# Altium footprint library VARISTOR.PcbLib: 1 footprints
Each footprint in its own frame and in the unit in brackets; x right, y up, seen from the top. Pads: shape width x height; smd on the part's side, far side on the other; paste and mask are expansions set on the pad; w line width, h text height; cw(c..) or ccw(c..) is an arc to the next point about the centre after c.
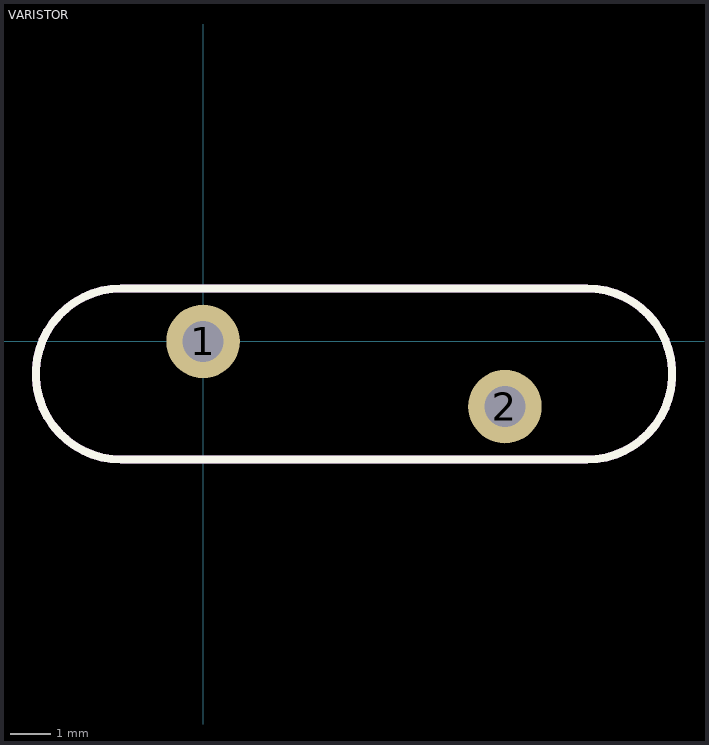
[diagram p0: the footprint, top view; thin cyan lines are the x and y axes]

## VARISTOR [mm]
pads (2):
  round 1.8 hole 1: 1(0,0) 2(7.4,-1.6)
Top Overlay:
  lines w0.2: -2,-2.9 cw(c-2,-0.8) -2,1.3 9.4,1.3 cw(c9.4,-0.8) 9.4,-2.9 -2,-2.9
TopAssy:
  lines w0.2: -2,-2.9 cw(c-2,-0.8) -2,1.3 9.4,1.3 cw(c9.4,-0.8) 9.4,-2.9 -2,-2.9
3D body "User Library-S14K25 MOV.step": height 18.6, standoff -2.9, extent -4.05,-2.9 11.45,1.3